# Altium footprint library ALCOTESTCOMPONENTS.PcbLib: 4 footprints
Each footprint in its own frame and in the unit in brackets; x right, y up, seen from the top. Pads: shape width x height; smd on the part's side, far side on the other; paste and mask are expansions set on the pad; w line width, h text height; cw(c..) or ccw(c..) is an arc to the next point about the centre after c.
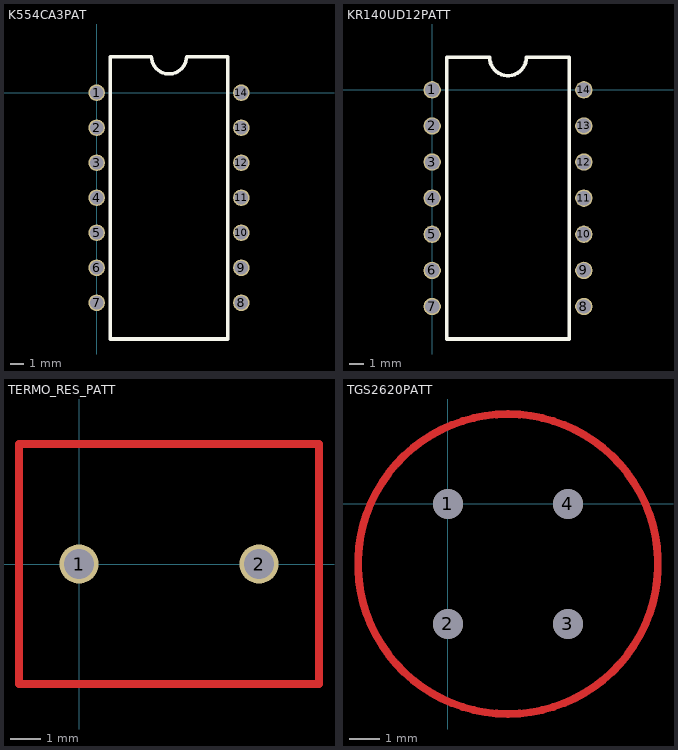
[diagram p0: the footprints below, top view; thin cyan lines are the x and y axes]

## K554CA3PAT [mm]
pads (14):
  round 1.2 hole 1: 1(0,0) 2(0,-2.54) 3(0,-5.08) 4(0,-7.62) 5(0,-10.16) 6(0,-12.7) 7(0,-15.24) 8(10.5,-15.24) 9(10.5,-12.7) 10(10.5,-10.16) 11(10.5,-7.62) 12(10.5,-5.08) 13(10.5,-2.54) 14(10.5,0)
Top Overlay:
  lines w0.254: 1,-17.87 9.5,-17.87 9.5,2.63 6.52,2.63 cw(c5.25,2.63) 3.98,2.63 1,2.63 1,-17.87

## KR140UD12PATT [mm]
pads (14):
  round 1.2 hole 1: 1(0,0) 2(0,-2.5) 3(0,-5) 4(0,-7.5) 5(0,-10) 6(0,-12.5) 7(0,-15) 8(10.5,-15) 9(10.5,-12.5) 10(10.5,-10) 11(10.5,-7.5) 12(10.5,-5) 13(10.5,-2.5) 14(10.5,0)
Top Overlay:
  lines w0.254: 1,-17.25 9.5,-17.25 9.5,2.25 6.52,2.25 cw(c5.25,2.25) 3.98,2.25 1,2.25 1,-17.25

## TERMO_RES_PATT [mm]
pads (2):
  round 1.3 hole 1: 1(0,0) 2(6,0)
Top Layer:
  lines w0.254: -2,-4 8,-4 8,4 -2,4 -2,-4

## TGS2620PATT [mm]
pads (4):
  round 1 hole 1: 1(0,0) 2(0,-4) 3(4,-4) 4(4,0)
Top Layer:
  lines w0.254: 2,-7 cw(c2,-2) 2,3 cw(c2,-2) 2,-7